# Altium integrated library pdmlse_pcb.IntLib: 82 symbols (part 2 of 2)
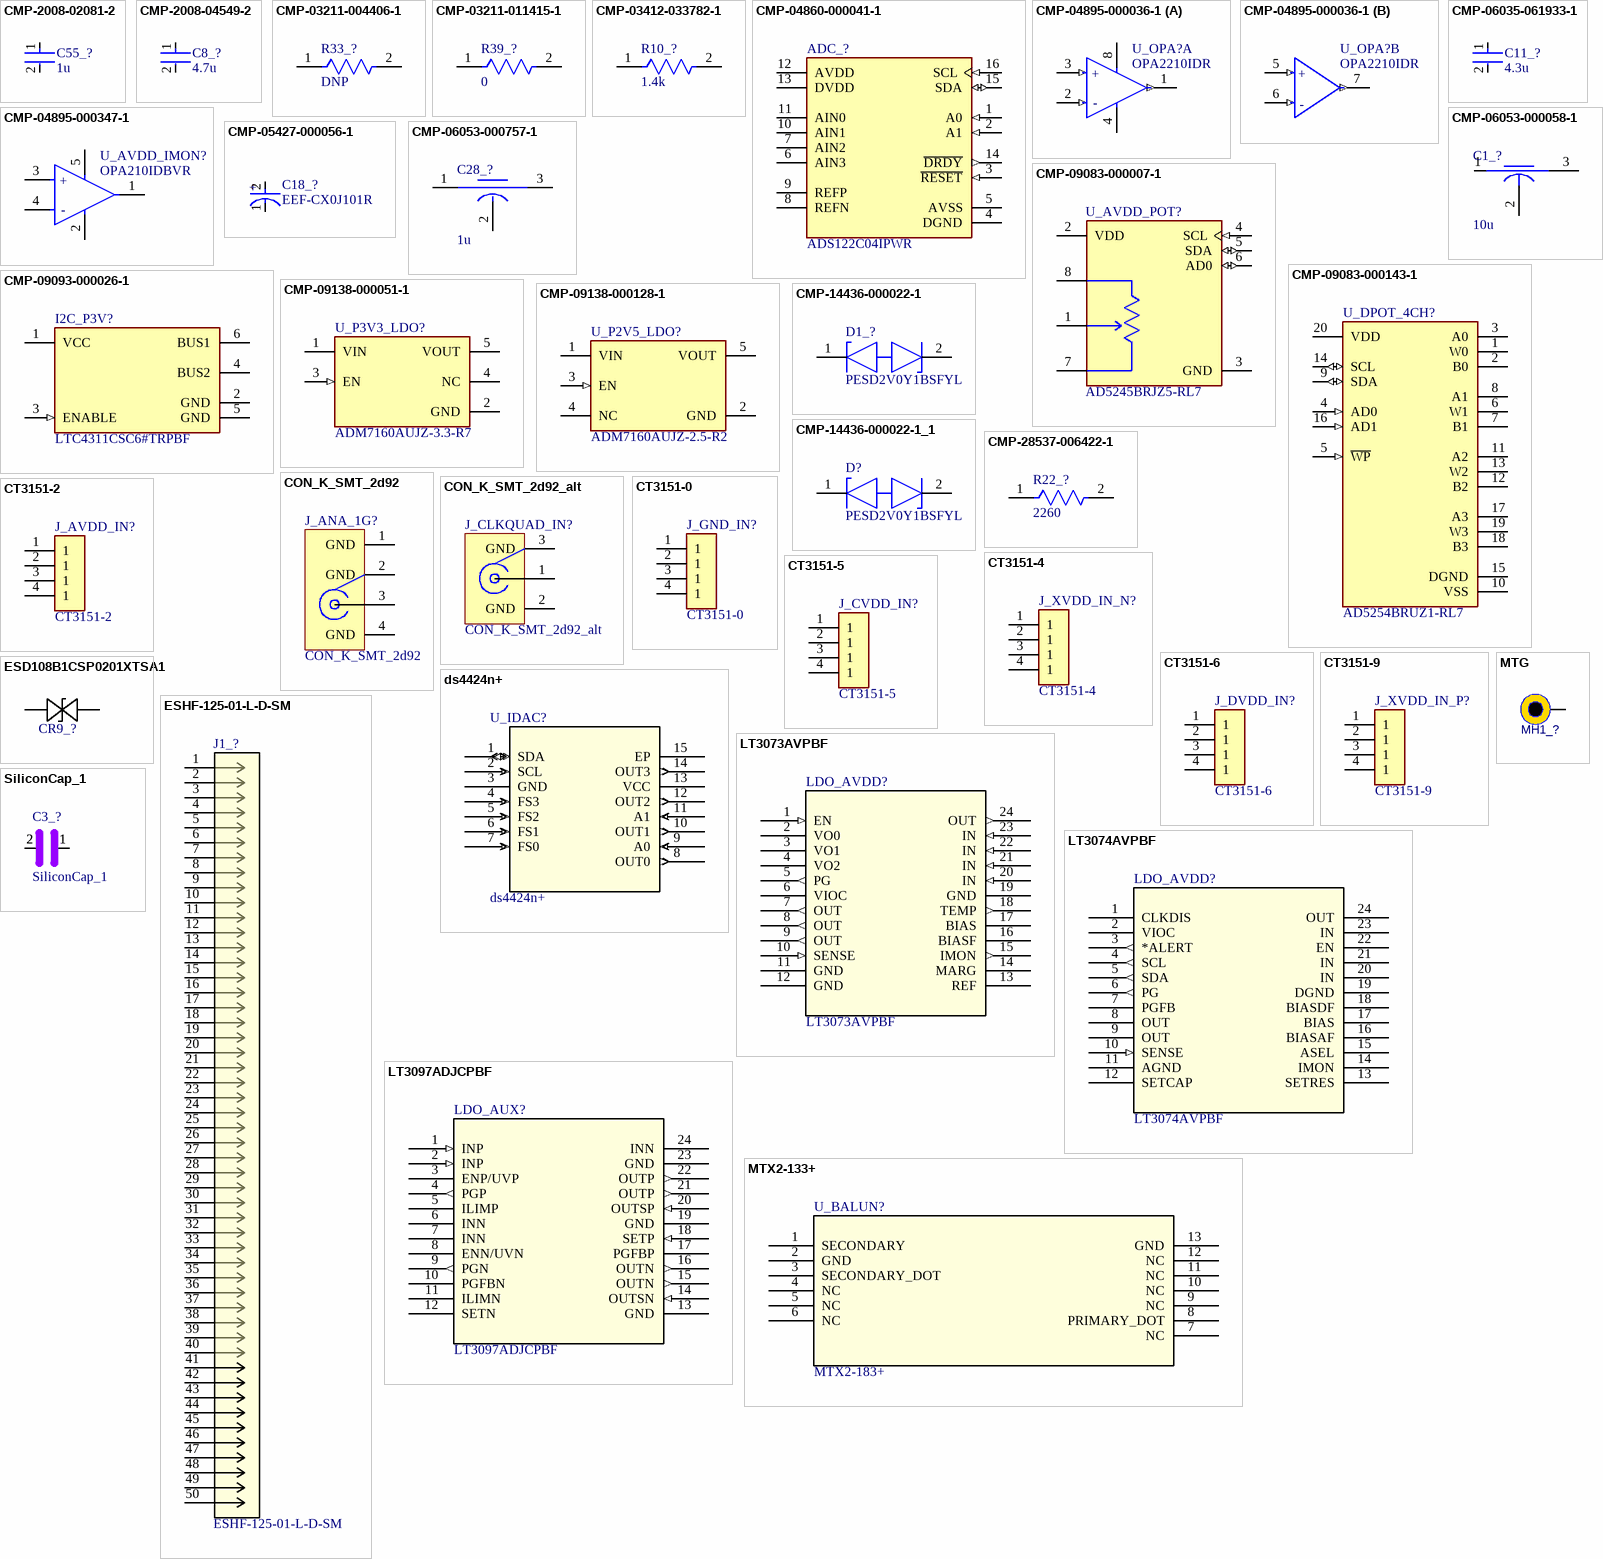
[diagram p7: symbols CMP-2008-02081-2 to SiliconCap_1]

## CT3151-5
designator J_CVDD_IN?
Banana Jack Connector Standard Banana Solder Green; MF: Cal Test; MP: CT3151-2; SnapEDA_Link: https://www.snapeda.com/parts/CT3151-2/Cal+Test+Electronics/view-part/?ref=snap; Package: None; Value: *; Check_prices: https://www.snapeda.com/parts/CT3151-2/Cal+Test+Electronics/view-part/?ref=eda; Supplier 1: Digikey; Supplier Part Number 1: BKCT3151-5-ND; ClassName: InputPowerComponent
footprint CALTEST_CT3151-2
pins: 1, 2 1, 3 1, 4 1

## CT3151-6
designator J_DVDD_IN?
Banana Jack Connector Standard Banana Solder Green; MF: Cal Test; MP: CT3151-2; SnapEDA_Link: https://www.snapeda.com/parts/CT3151-2/Cal+Test+Electronics/view-part/?ref=snap; Package: None; Value: *; Check_prices: https://www.snapeda.com/parts/CT3151-2/Cal+Test+Electronics/view-part/?ref=eda; Supplier 1: Digikey; Supplier Part Number 1: BKCT3151-6-ND; ClassName: InputPowerComponent
footprint CALTEST_CT3151-2
pins: 1, 2 1, 3 1, 4 1

## CT3151-9
designator J_XVDD_IN_P?
Banana Jack Connector Standard Banana Solder White; MF: Cal Test; MP: CT3151-2; SnapEDA_Link: https://www.snapeda.com/parts/CT3151-2/Cal+Test+Electronics/view-part/?ref=snap; Package: None; Value: *; Check_prices: https://www.snapeda.com/parts/CT3151-2/Cal+Test+Electronics/view-part/?ref=eda; Supplier 1: Digikey; Supplier Part Number 1: BKCT3151-9-ND; ClassName: InputPowerComponent
footprint CALTEST_CT3151-2
pins: 1, 2 1, 3 1, 4 1

## ds4424n+
designator U_IDAC?
No Description Available; Mfr_Name: Analog Devices Inc; RefDes: RefDes; Type: Type; Supplier 1: Mouser; Supplier Part Number 1: 700-DS4424N
footprint 21-0137_T1433+2_MXM
pins: 1 SDA (io), 2 SCL (in), 3 GND (power), 4 FS3 (in), 5 FS2 (in), 6 FS1 (in), 7 FS0 (in), 8 OUT0 (out), 9 A0 (in), 10 OUT1 (out), 11 A1 (in), 12 OUT2 (out), 13 VCC (power), 14 OUT3 (out), 15 EP

## ESD108B1CSP0201XTSA1
designator CR9_?, comment CSPSBULC1V5AE  (value not drawn)
No Description Available; Mfr_Name: Infineon
footprint WLL-2-1_INF
pins: 1, 2

## ESHF-125-01-L-D-SM
designator J1_?
No Description Available; Mfr_Name: Samtec Inc; Type: Headers, Male Pins; RefDes: RefDes; Supplier 1: Digikey; Supplier Part Number 1: SAM15560-ND; ClassName: InputPowerComponent
footprint CONN_ESHF-125-01-x-D-SM_SAI
pins: 1, 2, 3, 4, 5, 6, 7, 8, 9, 10, 11, 12, 13, 14, 15, 16, 17, 18, 19, 20, 21, 22, 23, 24, 25, 26, 27, 28, 29, 30, 31, 32, 33, 34, 35, 36, 37, 38, 39, 40, 41, 42, 43, 44, 45, 46, 47, 48, 49, 50

## LT3073AVPBF
designator LDO_AVDD?
No Description Available; Mfr_Name: Analog Devices Inc; Type: Power Management; RefDes: RefDes; Supplier 1: Arrow Electronics; Supplier Part Number 1: LT3073AV#PBF
footprint 05-08-7054_ADI
pins: 1 EN (in), 2 VO0 (hiz), 3 VO1 (hiz), 4 VO2 (hiz), 5 PG (out), 6 VIOC (power), 7 OUT (out), 8 OUT (out), 9 OUT (out), 10 SENSE (in), 11 GND (power), 12 GND (power), 13 REF, 14 MARG, 15 IMON (out), 16 BIASF (power), 17 BIAS (power), 18 TEMP (out), 19 GND (power), 20 IN (in), 21 IN (in), 22 IN (in), 23 IN (in), 24 OUT (out)

## LT3074AVPBF
designator LDO_AVDD?
No Description Available; Mfr_Name: Analog Devices Inc; RefDes: RefDes; Type: Type; Supplier 1: Mouser; Supplier Part Number 1: 584-LT3074AV#PBF
footprint LGA_CC-22-4_ADI
pins: 1 CLKDIS, 2 VIOC, 3 *ALERT (out), 4 SCL (out), 5 SDA (out), 6 PG (out), 7 PGFB, 8 OUT (power), 9 OUT (power), 10 SENSE (in), 11 AGND (power), 12 SETCAP, 13 SETRES, 14 IMON (power), 15 ASEL, 16 BIASAF, 17 BIAS (power), 18 BIASDF, 19 DGND (power), 20 IN (power), 21 IN (power), 22 EN, 23 IN (power), 24 OUT (power)

## LT3097ADJCPBF
designator LDO_AUX?
No Description Available; Mfr_Name: Analog Devices Inc; Type: Power Management; RefDes: RefDes; Supplier 1: Mouser; Supplier Part Number 1: 584-LT3097ADJC#PBF
footprint 05-08-7071_ADI
pins: 1 INP (in), 2 INP (in), 3 ENP/UVP, 4 PGP (out), 5 ILIMP, 6 INN (power), 7 INN (power), 8 ENN/UVN, 9 PGN (out), 10 PGFBN, 11 ILIMN, 12 SETN, 13 GND (power), 14 OUTSN (in), 15 OUTN (out), 16 OUTN (out), 17 PGFBP, 18 SETP (in), 19 GND (power), 20 OUTSP (in), 21 OUTP (out), 22 OUTP (out), 23 GND (power), 24 INN (power)

## MTG
designator MH1_?  (value not drawn)
Mounting hole
footprint MTG-2.7/5.0-PTH (Mounting hole, 2.7mm ID, 5.0mm OD, plated)
footprint MTG-3.0/5.0-PTH (Mounting hole, 3.0mm ID, 5.0mm OD, plated)
footprint MTG-5.0/10.0-PTH (Mounting hole, 6.0mm ID, 11.0mm OD, plated)
footprint MTG-2.5/5.0-PTH (Mounting hole, 2.5mm ID, 5.0mm OD, plated)
footprint MTG-3.2/6.5-PTH (Mounting hole, 3.2mm ID, 6.5mm OD, plated)
pins: 1

## MTX2-133+
designator U_BALUN?, comment MTX2-183+
Mfr_Name: Mini Circuits; RefDes: RefDes; Type: Type; Supplier 1: Mouser; Supplier Part Number 1: 139-MTX2-183+
footprint DG3006_MNC
pins: 1 SECONDARY, 2 GND (power), 3 SECONDARY_DOT, 4 NC, 5 NC, 6 NC, 7 NC, 8 PRIMARY_DOT, 9 NC, 10 NC, 11 NC, 12 NC, 13 GND (power)

## SiliconCap_1
designator C3_?
939114492510-T3S from Murata; Supplier 1: Digikey; Supplier Part Number 1: 490-939114492510-T3SCT-ND
footprint 0201-NOSILK
pins: 1, 1, 2, 2

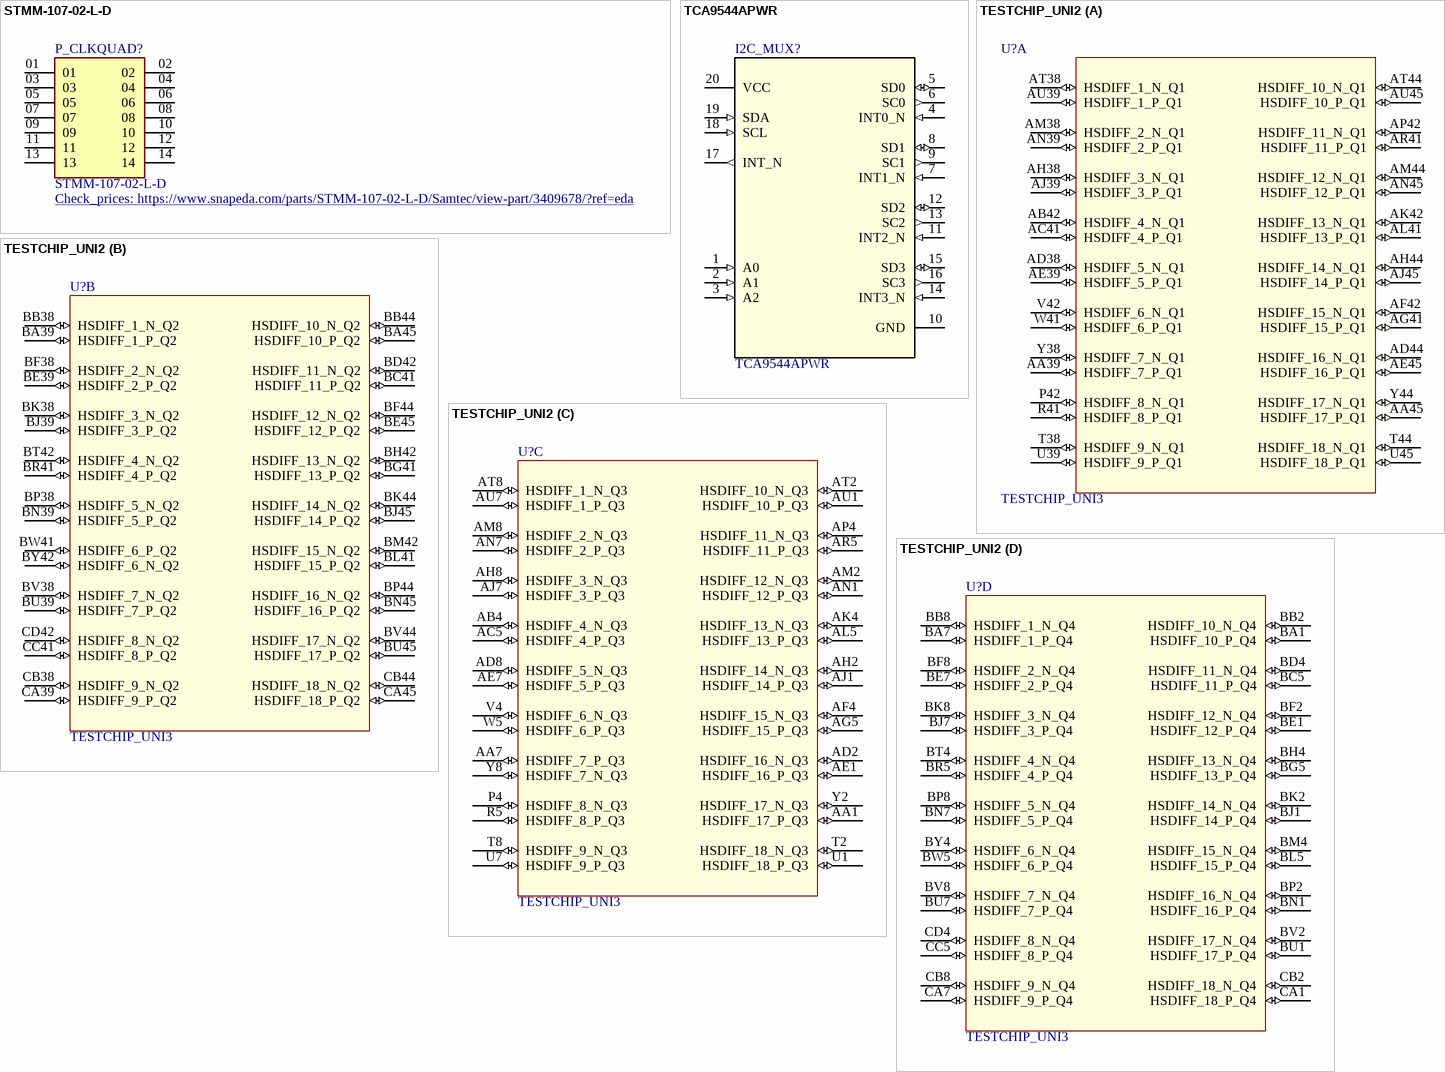
[diagram p2: symbols STMM-107-02-L-D to TESTCHIP_UNI2]

## STMM-107-02-L-D
designator P_CLKQUAD?
Connector Header Surface Mount 14 position 0.079 (2.00mm); MF: Samtec; MP: STMM-107-02-L-D; SnapEDA_Link: https://www.snapeda.com/parts/STMM-107-02-L-D/Samtec/view-part/3409678/?ref=snap; Package: None; Value: *; Digi-Key_Part_Number: STMM-107-02-L-D-SM-TR-ND; Supplier 1: Mouser; Supplier Part Number 1: 200-STMM10702LD; Check_prices: https://www.snapeda.com/parts/STMM-107-02-L-D/Samtec/view-part/3409678/?ref=eda
footprint SAMTEC_STMM-107-02-L-D
pins: 01, 02, 03, 04, 05, 06, 07, 08, 09, 10, 11, 12, 13, 14

## TCA9544APWR
designator I2C_MUX?
No Description Available; Mfr_Name: Texas Instruments; CompType: IC; TYPE: TYPE; RefDes: RefDes; SymbolVerison: 2015-05-04; PartNumber: TCA9544APWR; PackageReference: PW0020A; MountType: SMT; RoHS: Y; Manufacturer: Texas Instruments
footprint PW0020A_L
pins: 1 A0 (in), 2 A1 (in), 3 A2 (in), 4 INT0_N (in), 5 SD0 (io), 6 SC0 (out), 7 INT1_N (in), 8 SD1 (io), 9 SC1 (out), 10 GND (power), 11 INT2_N (in), 12 SD2 (io), 13 SC2 (out), 14 INT3_N (in), 15 SD3 (io), 16 SC3 (out), 17 INT_N (out), 18 SCL (in), 19 SDA (in), 20 VCC (power)

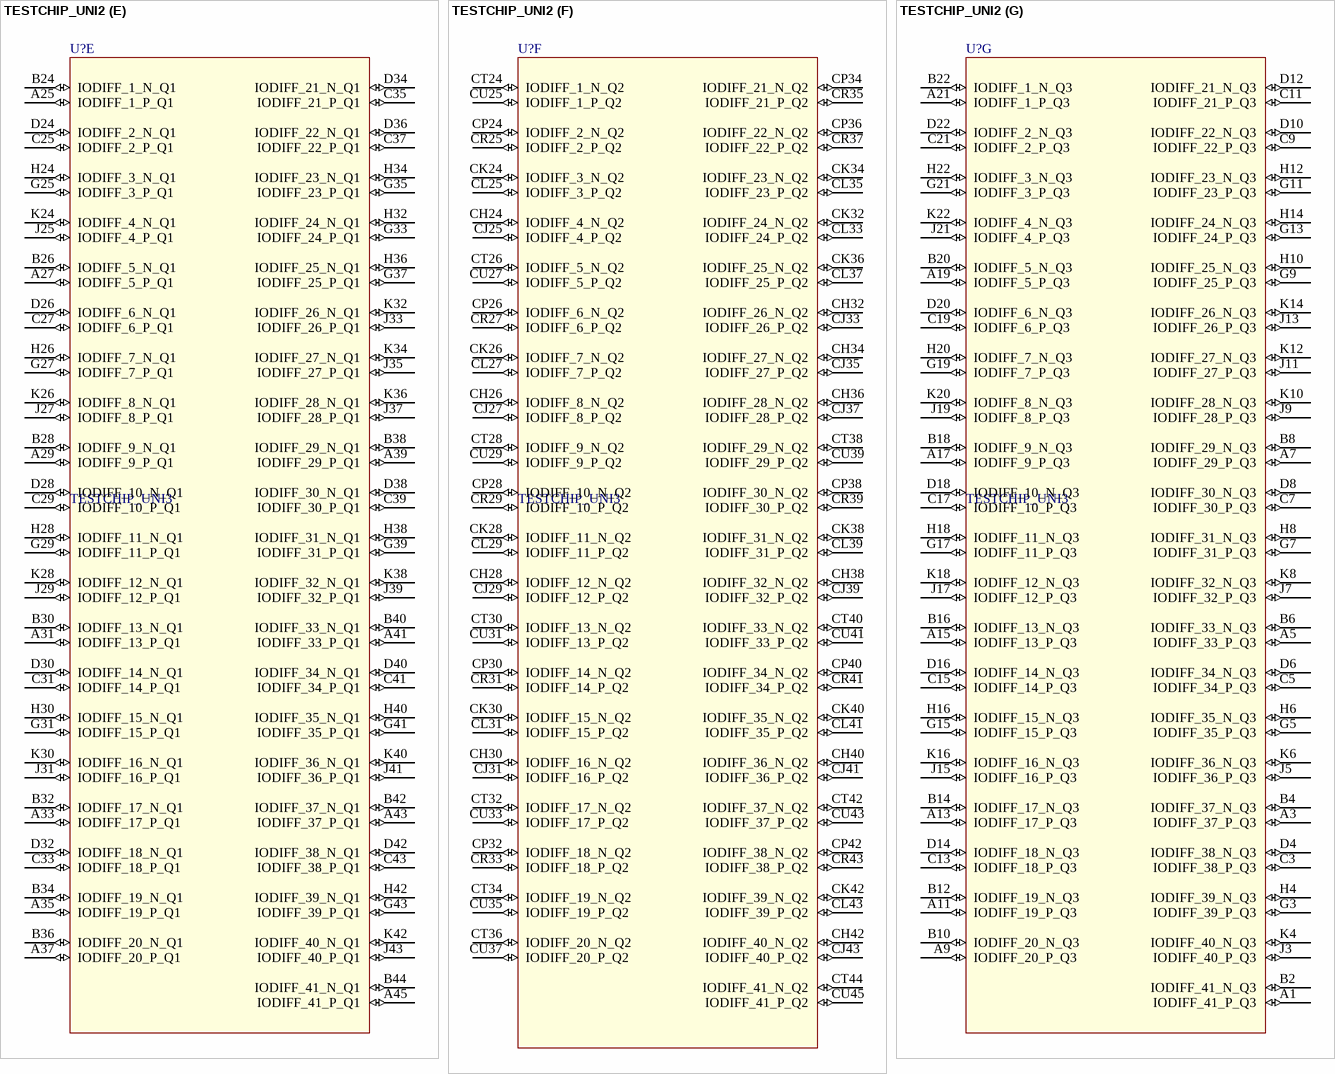
[diagram p3: symbol TESTCHIP_UNI2]

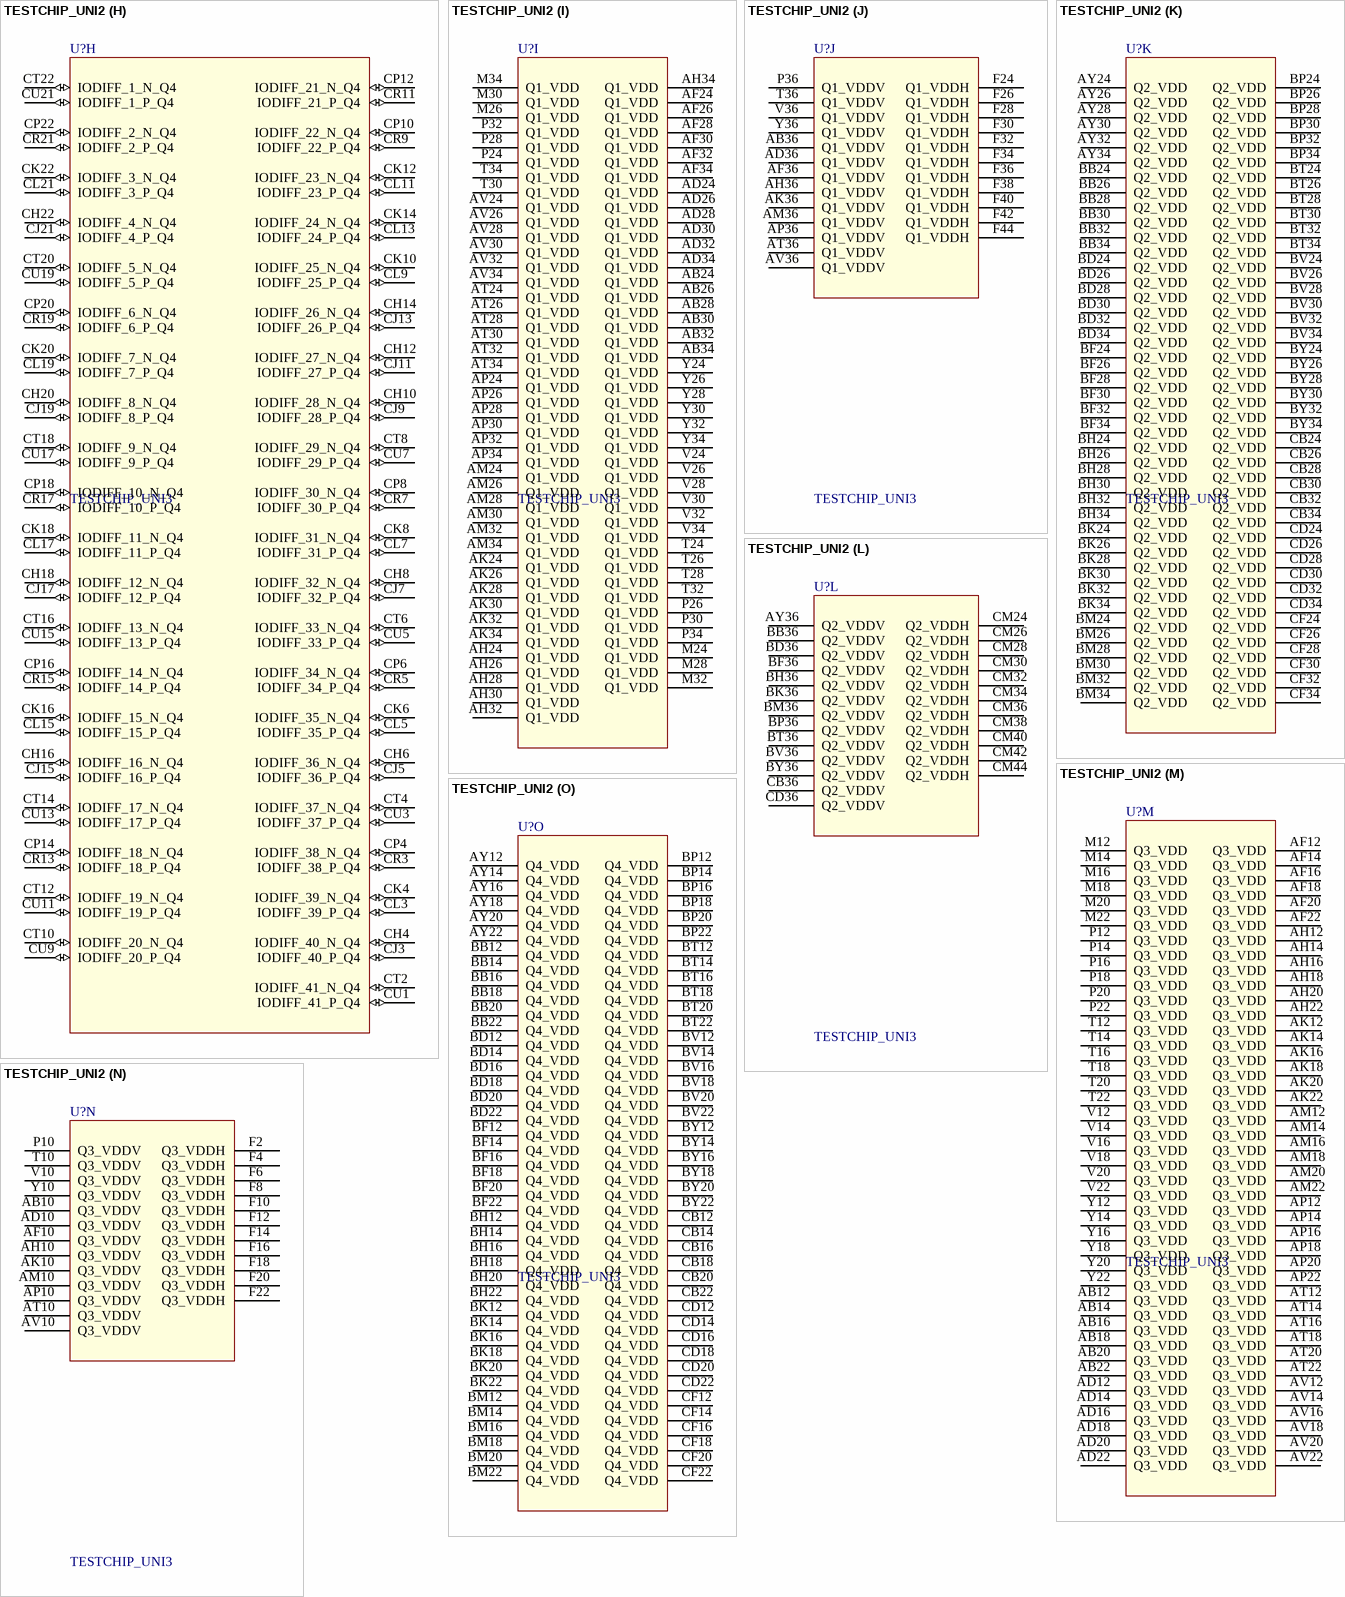
[diagram p4: symbol TESTCHIP_UNI2]

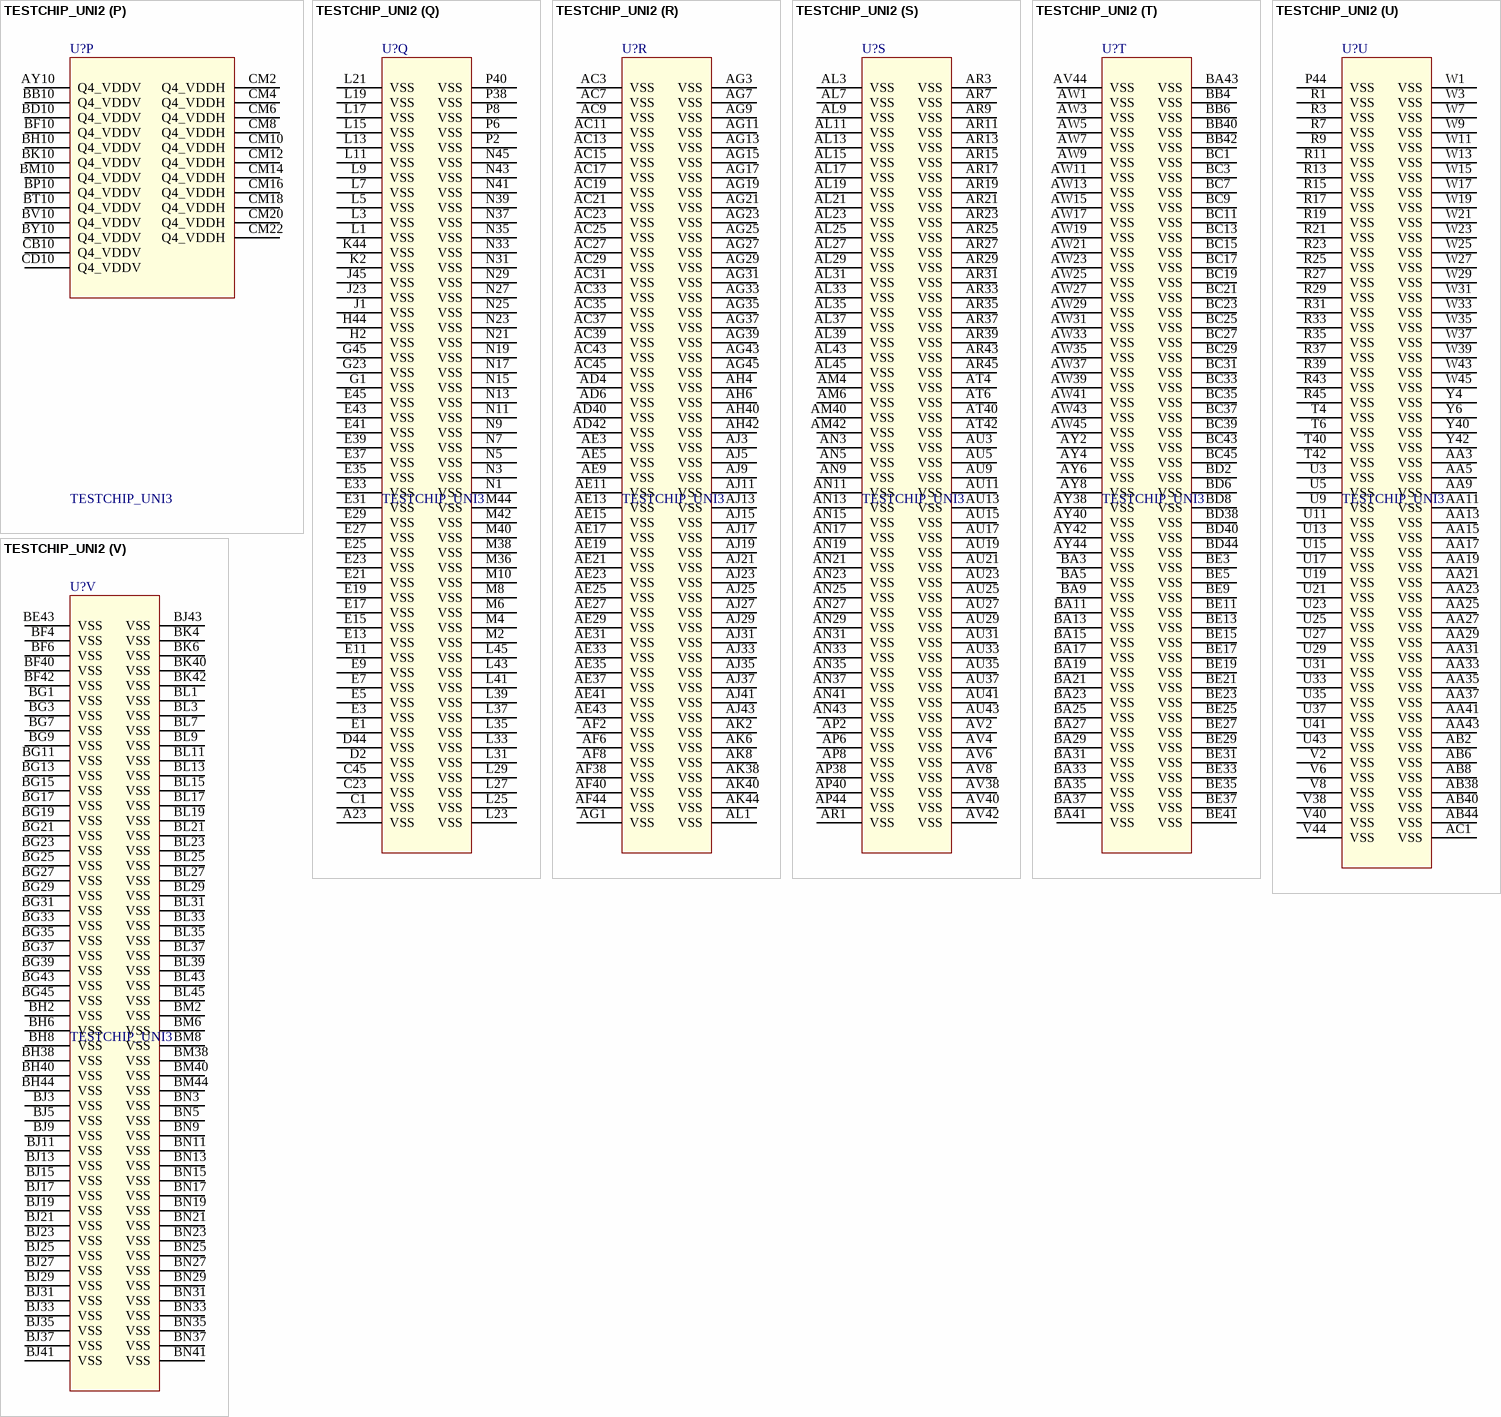
[diagram p5: symbol TESTCHIP_UNI2]

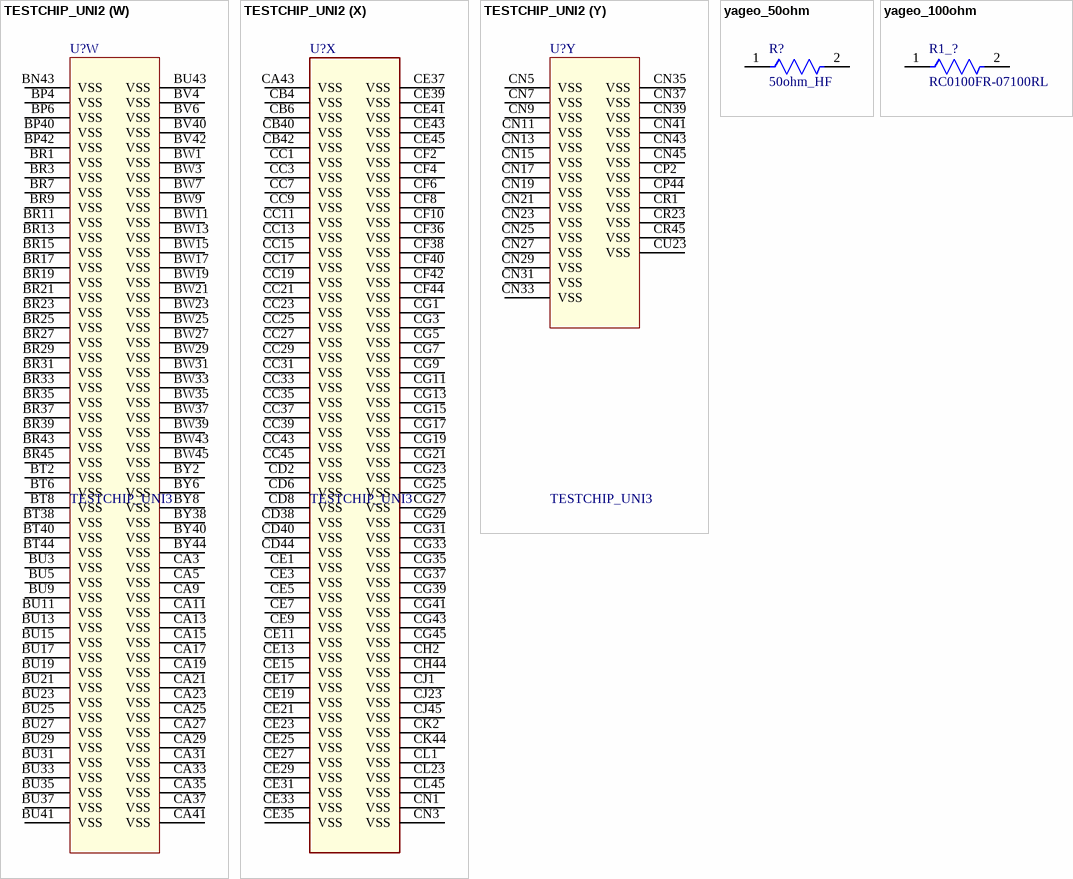
[diagram p6: symbols TESTCHIP_UNI2 to yageo_100ohm]

## TESTCHIP_UNI2
designator U?, comment TESTCHIP_UNI3
UNI2 interposer
footprint BGA-1733-.92-37.5X37.5
part A pins: AA39 HSDIFF_7_P_Q1 (io), AA45 HSDIFF_17_P_Q1 (io), AB42 HSDIFF_4_N_Q1 (io), AC41 HSDIFF_4_P_Q1 (io), AD38 HSDIFF_5_N_Q1 (io), AD44 HSDIFF_16_N_Q1 (io), AE39 HSDIFF_5_P_Q1 (io), AE45 HSDIFF_16_P_Q1 (io), AF42 HSDIFF_15_N_Q1 (io), AG41 HSDIFF_15_P_Q1 (io), AH38 HSDIFF_3_N_Q1 (io), AH44 HSDIFF_14_N_Q1 (io), AJ39 HSDIFF_3_P_Q1 (io), AJ45 HSDIFF_14_P_Q1 (io), AK42 HSDIFF_13_N_Q1 (io), AL41 HSDIFF_13_P_Q1 (io), AM38 HSDIFF_2_N_Q1 (io), AM44 HSDIFF_12_N_Q1 (io), AN39 HSDIFF_2_P_Q1 (io), AN45 HSDIFF_12_P_Q1 (io), AP42 HSDIFF_11_N_Q1 (io), AR41 HSDIFF_11_P_Q1 (io), AT38 HSDIFF_1_N_Q1 (io), AT44 HSDIFF_10_N_Q1 (io), AU39 HSDIFF_1_P_Q1 (io), AU45 HSDIFF_10_P_Q1 (io), P42 HSDIFF_8_N_Q1 (io), R41 HSDIFF_8_P_Q1 (io), T38 HSDIFF_9_N_Q1 (io), T44 HSDIFF_18_N_Q1 (io), U39 HSDIFF_9_P_Q1 (io), U45 HSDIFF_18_P_Q1 (io), V42 HSDIFF_6_N_Q1 (io), W41 HSDIFF_6_P_Q1 (io), Y38 HSDIFF_7_N_Q1 (io), Y44 HSDIFF_17_N_Q1 (io)
part B pins: BA39 HSDIFF_1_P_Q2 (io), BA45 HSDIFF_10_P_Q2 (io), BB38 HSDIFF_1_N_Q2 (io), BB44 HSDIFF_10_N_Q2 (io), BC41 HSDIFF_11_P_Q2 (io), BD42 HSDIFF_11_N_Q2 (io), BE39 HSDIFF_2_P_Q2 (io), BE45 HSDIFF_12_P_Q2 (io), BF38 HSDIFF_2_N_Q2 (io), BF44 HSDIFF_12_N_Q2 (io), BG41 HSDIFF_13_P_Q2 (io), BH42 HSDIFF_13_N_Q2 (io), BJ39 HSDIFF_3_P_Q2 (io), BJ45 HSDIFF_14_P_Q2 (io), BK38 HSDIFF_3_N_Q2 (io), BK44 HSDIFF_14_N_Q2 (io), BL41 HSDIFF_15_P_Q2 (io), BM42 HSDIFF_15_N_Q2 (io), BN39 HSDIFF_5_P_Q2 (io), BN45 HSDIFF_16_P_Q2 (io), BP38 HSDIFF_5_N_Q2 (io), BP44 HSDIFF_16_N_Q2 (io), BR41 HSDIFF_4_P_Q2 (io), BT42 HSDIFF_4_N_Q2 (io), BU39 HSDIFF_7_P_Q2 (io), BU45 HSDIFF_17_P_Q2 (io), BV38 HSDIFF_7_N_Q2 (io), BV44 HSDIFF_17_N_Q2 (io), BW41 HSDIFF_6_P_Q2 (io), BY42 HSDIFF_6_N_Q2 (io), CA39 HSDIFF_9_P_Q2 (io), CA45 HSDIFF_18_P_Q2 (io), CB38 HSDIFF_9_N_Q2 (io), CB44 HSDIFF_18_N_Q2 (io), CC41 HSDIFF_8_P_Q2 (io), CD42 HSDIFF_8_N_Q2 (io)
part C pins: AA1 HSDIFF_17_P_Q3 (io), AA7 HSDIFF_7_P_Q3 (io), AB4 HSDIFF_4_N_Q3 (io), AC5 HSDIFF_4_P_Q3 (io), AD2 HSDIFF_16_N_Q3 (io), AD8 HSDIFF_5_N_Q3 (io), AE1 HSDIFF_16_P_Q3 (io), AE7 HSDIFF_5_P_Q3 (io), AF4 HSDIFF_15_N_Q3 (io), AG5 HSDIFF_15_P_Q3 (io), AH2 HSDIFF_14_N_Q3 (io), AH8 HSDIFF_3_N_Q3 (io), AJ1 HSDIFF_14_P_Q3 (io), AJ7 HSDIFF_3_P_Q3 (io), AK4 HSDIFF_13_N_Q3 (io), AL5 HSDIFF_13_P_Q3 (io), AM2 HSDIFF_12_N_Q3 (io), AM8 HSDIFF_2_N_Q3 (io), AN1 HSDIFF_12_P_Q3 (io), AN7 HSDIFF_2_P_Q3 (io), AP4 HSDIFF_11_N_Q3 (io), AR5 HSDIFF_11_P_Q3 (io), AT2 HSDIFF_10_N_Q3 (io), AT8 HSDIFF_1_N_Q3 (io), AU1 HSDIFF_10_P_Q3 (io), AU7 HSDIFF_1_P_Q3 (io), P4 HSDIFF_8_N_Q3 (io), R5 HSDIFF_8_P_Q3 (io), T2 HSDIFF_18_N_Q3 (io), T8 HSDIFF_9_N_Q3 (io), U1 HSDIFF_18_P_Q3 (io), U7 HSDIFF_9_P_Q3 (io), V4 HSDIFF_6_N_Q3 (io), W5 HSDIFF_6_P_Q3 (io), Y2 HSDIFF_17_N_Q3 (io), Y8 HSDIFF_7_N_Q3 (io)
part D pins: BA1 HSDIFF_10_P_Q4 (io), BA7 HSDIFF_1_P_Q4 (io), BB2 HSDIFF_10_N_Q4 (io), BB8 HSDIFF_1_N_Q4 (io), BC5 HSDIFF_11_P_Q4 (io), BD4 HSDIFF_11_N_Q4 (io), BE1 HSDIFF_12_P_Q4 (io), BE7 HSDIFF_2_P_Q4 (io), BF2 HSDIFF_12_N_Q4 (io), BF8 HSDIFF_2_N_Q4 (io), BG5 HSDIFF_13_P_Q4 (io), BH4 HSDIFF_13_N_Q4 (io), BJ1 HSDIFF_14_P_Q4 (io), BJ7 HSDIFF_3_P_Q4 (io), BK2 HSDIFF_14_N_Q4 (io), BK8 HSDIFF_3_N_Q4 (io), BL5 HSDIFF_15_P_Q4 (io), BM4 HSDIFF_15_N_Q4 (io), BN1 HSDIFF_16_P_Q4 (io), BN7 HSDIFF_5_P_Q4 (io), BP2 HSDIFF_16_N_Q4 (io), BP8 HSDIFF_5_N_Q4 (io), BR5 HSDIFF_4_P_Q4 (io), BT4 HSDIFF_4_N_Q4 (io), BU1 HSDIFF_17_P_Q4 (io), BU7 HSDIFF_7_P_Q4 (io), BV2 HSDIFF_17_N_Q4 (io), BV8 HSDIFF_7_N_Q4 (io), BW5 HSDIFF_6_P_Q4 (io), BY4 HSDIFF_6_N_Q4 (io), CA1 HSDIFF_18_P_Q4 (io), CA7 HSDIFF_9_P_Q4 (io), CB2 HSDIFF_18_N_Q4 (io), CB8 HSDIFF_9_N_Q4 (io), CC5 HSDIFF_8_P_Q4 (io), CD4 HSDIFF_8_N_Q4 (io)
part E pins: A25 IODIFF_1_P_Q1 (io), A27 IODIFF_5_P_Q1 (io), A29 IODIFF_9_P_Q1 (io), A31 IODIFF_13_P_Q1 (io), A33 IODIFF_17_P_Q1 (io), A35 IODIFF_19_P_Q1 (io), A37 IODIFF_20_P_Q1 (io), A39 IODIFF_29_P_Q1 (io), A41 IODIFF_33_P_Q1 (io), A43 IODIFF_37_P_Q1 (io), A45 IODIFF_41_P_Q1 (io), B24 IODIFF_1_N_Q1 (io), B26 IODIFF_5_N_Q1 (io), B28 IODIFF_9_N_Q1 (io), B30 IODIFF_13_N_Q1 (io), B32 IODIFF_17_N_Q1 (io), B34 IODIFF_19_N_Q1 (io), B36 IODIFF_20_N_Q1 (io), B38 IODIFF_29_N_Q1 (io), B40 IODIFF_33_N_Q1 (io), B42 IODIFF_37_N_Q1 (io), B44 IODIFF_41_N_Q1 (io), C25 IODIFF_2_P_Q1 (io), C27 IODIFF_6_P_Q1 (io), C29 IODIFF_10_P_Q1 (io), C31 IODIFF_14_P_Q1 (io), C33 IODIFF_18_P_Q1 (io), C35 IODIFF_21_P_Q1 (io), C37 IODIFF_22_P_Q1 (io), C39 IODIFF_30_P_Q1 (io), C41 IODIFF_34_P_Q1 (io), C43 IODIFF_38_P_Q1 (io), D24 IODIFF_2_N_Q1 (io), D26 IODIFF_6_N_Q1 (io), D28 IODIFF_10_N_Q1 (io), D30 IODIFF_14_N_Q1 (io), D32 IODIFF_18_N_Q1 (io), D34 IODIFF_21_N_Q1 (io), D36 IODIFF_22_N_Q1 (io), D38 IODIFF_30_N_Q1 (io), D40 IODIFF_34_N_Q1 (io), D42 IODIFF_38_N_Q1 (io), G25 IODIFF_3_P_Q1 (io), G27 IODIFF_7_P_Q1 (io), G29 IODIFF_11_P_Q1 (io), G31 IODIFF_15_P_Q1 (io), G33 IODIFF_24_P_Q1 (io), G35 IODIFF_23_P_Q1 (io), G37 IODIFF_25_P_Q1 (io), G39 IODIFF_31_P_Q1 (io), G41 IODIFF_35_P_Q1 (io), G43 IODIFF_39_P_Q1 (io), H24 IODIFF_3_N_Q1 (io), H26 IODIFF_7_N_Q1 (io), H28 IODIFF_11_N_Q1 (io), H30 IODIFF_15_N_Q1 (io), H32 IODIFF_24_N_Q1 (io), H34 IODIFF_23_N_Q1 (io), H36 IODIFF_25_N_Q1 (io), H38 IODIFF_31_N_Q1 (io), H40 IODIFF_35_N_Q1 (io), H42 IODIFF_39_N_Q1 (io), J25 IODIFF_4_P_Q1 (io), J27 IODIFF_8_P_Q1 (io), J29 IODIFF_12_P_Q1 (io), J31 IODIFF_16_P_Q1 (io), J33 IODIFF_26_P_Q1 (io), J35 IODIFF_27_P_Q1 (io), J37 IODIFF_28_P_Q1 (io), J39 IODIFF_32_P_Q1 (io), J41 IODIFF_36_P_Q1 (io), J43 IODIFF_40_P_Q1 (io), K24 IODIFF_4_N_Q1 (io), K26 IODIFF_8_N_Q1 (io), K28 IODIFF_12_N_Q1 (io), K30 IODIFF_16_N_Q1 (io), K32 IODIFF_26_N_Q1 (io), K34 IODIFF_27_N_Q1 (io), K36 IODIFF_28_N_Q1 (io), K38 IODIFF_32_N_Q1 (io), K40 IODIFF_36_N_Q1 (io), K42 IODIFF_40_N_Q1 (io)
part F pins: CH24 IODIFF_4_N_Q2 (io), CH26 IODIFF_8_N_Q2 (io), CH28 IODIFF_12_N_Q2 (io), CH30 IODIFF_16_N_Q2 (io), CH32 IODIFF_26_N_Q2 (io), CH34 IODIFF_27_N_Q2 (io), CH36 IODIFF_28_N_Q2 (io), CH38 IODIFF_32_N_Q2 (io), CH40 IODIFF_36_N_Q2 (io), CH42 IODIFF_40_N_Q2 (io), CJ25 IODIFF_4_P_Q2 (io), CJ27 IODIFF_8_P_Q2 (io), CJ29 IODIFF_12_P_Q2 (io), CJ31 IODIFF_16_P_Q2 (io), CJ33 IODIFF_26_P_Q2 (io), CJ35 IODIFF_27_P_Q2 (io), CJ37 IODIFF_28_P_Q2 (io), CJ39 IODIFF_32_P_Q2 (io), CJ41 IODIFF_36_P_Q2 (io), CJ43 IODIFF_40_P_Q2 (io), CK24 IODIFF_3_N_Q2 (io), CK26 IODIFF_7_N_Q2 (io), CK28 IODIFF_11_N_Q2 (io), CK30 IODIFF_15_N_Q2 (io), CK32 IODIFF_24_N_Q2 (io), CK34 IODIFF_23_N_Q2 (io), CK36 IODIFF_25_N_Q2 (io), CK38 IODIFF_31_N_Q2 (io), CK40 IODIFF_35_N_Q2 (io), CK42 IODIFF_39_N_Q2 (io), CL25 IODIFF_3_P_Q2 (io), CL27 IODIFF_7_P_Q2 (io), CL29 IODIFF_11_P_Q2 (io), CL31 IODIFF_15_P_Q2 (io), CL33 IODIFF_24_P_Q2 (io), CL35 IODIFF_23_P_Q2 (io), CL37 IODIFF_25_P_Q2 (io), CL39 IODIFF_31_P_Q2 (io), CL41 IODIFF_35_P_Q2 (io), CL43 IODIFF_39_P_Q2 (io), CP24 IODIFF_2_N_Q2 (io), CP26 IODIFF_6_N_Q2 (io), CP28 IODIFF_10_N_Q2 (io), CP30 IODIFF_14_N_Q2 (io), CP32 IODIFF_18_N_Q2 (io), CP34 IODIFF_21_N_Q2 (io), CP36 IODIFF_22_N_Q2 (io), CP38 IODIFF_30_N_Q2 (io), CP40 IODIFF_34_N_Q2 (io), CP42 IODIFF_38_N_Q2 (io), CR25 IODIFF_2_P_Q2 (io), CR27 IODIFF_6_P_Q2 (io), CR29 IODIFF_10_P_Q2 (io), CR31 IODIFF_14_P_Q2 (io), CR33 IODIFF_18_P_Q2 (io), CR35 IODIFF_21_P_Q2 (io), CR37 IODIFF_22_P_Q2 (io), CR39 IODIFF_30_P_Q2 (io), CR41 IODIFF_34_P_Q2 (io), CR43 IODIFF_38_P_Q2 (io), CT24 IODIFF_1_N_Q2 (io), CT26 IODIFF_5_N_Q2 (io), CT28 IODIFF_9_N_Q2 (io), CT30 IODIFF_13_N_Q2 (io), CT32 IODIFF_17_N_Q2 (io), CT34 IODIFF_19_N_Q2 (io), CT36 IODIFF_20_N_Q2 (io), CT38 IODIFF_29_N_Q2 (io), CT40 IODIFF_33_N_Q2 (io), CT42 IODIFF_37_N_Q2 (io), CT44 IODIFF_41_N_Q2 (io), CU25 IODIFF_1_P_Q2 (io), CU27 IODIFF_5_P_Q2 (io), CU29 IODIFF_9_P_Q2 (io), CU31 IODIFF_13_P_Q2 (io), CU33 IODIFF_17_P_Q2 (io), CU35 IODIFF_19_P_Q2 (io), CU37 IODIFF_20_P_Q2 (io), CU39 IODIFF_29_P_Q2 (io), CU41 IODIFF_33_P_Q2 (io), CU43 IODIFF_37_P_Q2 (io), CU45 IODIFF_41_P_Q2 (io)
part G pins: A1 IODIFF_41_P_Q3 (io), A3 IODIFF_37_P_Q3 (io), A5 IODIFF_33_P_Q3 (io), A7 IODIFF_29_P_Q3 (io), A9 IODIFF_20_P_Q3 (io), A11 IODIFF_19_P_Q3 (io), A13 IODIFF_17_P_Q3 (io), A15 IODIFF_13_P_Q3 (io), A17 IODIFF_9_P_Q3 (io), A19 IODIFF_5_P_Q3 (io), A21 IODIFF_1_P_Q3 (io), B2 IODIFF_41_N_Q3 (io), B4 IODIFF_37_N_Q3 (io), B6 IODIFF_33_N_Q3 (io), B8 IODIFF_29_N_Q3 (io), B10 IODIFF_20_N_Q3 (io), B12 IODIFF_19_N_Q3 (io), B14 IODIFF_17_N_Q3 (io), B16 IODIFF_13_N_Q3 (io), B18 IODIFF_9_N_Q3 (io), B20 IODIFF_5_N_Q3 (io), B22 IODIFF_1_N_Q3 (io), C3 IODIFF_38_P_Q3 (io), C5 IODIFF_34_P_Q3 (io), C7 IODIFF_30_P_Q3 (io), C9 IODIFF_22_P_Q3 (io), C11 IODIFF_21_P_Q3 (io), C13 IODIFF_18_P_Q3 (io), C15 IODIFF_14_P_Q3 (io), C17 IODIFF_10_P_Q3 (io), C19 IODIFF_6_P_Q3 (io), C21 IODIFF_2_P_Q3 (io), D4 IODIFF_38_N_Q3 (io), D6 IODIFF_34_N_Q3 (io), D8 IODIFF_30_N_Q3 (io), D10 IODIFF_22_N_Q3 (io), D12 IODIFF_21_N_Q3 (io), D14 IODIFF_18_N_Q3 (io), D16 IODIFF_14_N_Q3 (io), D18 IODIFF_10_N_Q3 (io), D20 IODIFF_6_N_Q3 (io), D22 IODIFF_2_N_Q3 (io), G3 IODIFF_39_P_Q3 (io), G5 IODIFF_35_P_Q3 (io), G7 IODIFF_31_P_Q3 (io), G9 IODIFF_25_P_Q3 (io), G11 IODIFF_23_P_Q3 (io), G13 IODIFF_24_P_Q3 (io), G15 IODIFF_15_P_Q3 (io), G17 IODIFF_11_P_Q3 (io), G19 IODIFF_7_P_Q3 (io), G21 IODIFF_3_P_Q3 (io), H4 IODIFF_39_N_Q3 (io), H6 IODIFF_35_N_Q3 (io), H8 IODIFF_31_N_Q3 (io), H10 IODIFF_25_N_Q3 (io), H12 IODIFF_23_N_Q3 (io), H14 IODIFF_24_N_Q3 (io), H16 IODIFF_15_N_Q3 (io), H18 IODIFF_11_N_Q3 (io), H20 IODIFF_7_N_Q3 (io), H22 IODIFF_3_N_Q3 (io), J3 IODIFF_40_P_Q3 (io), J5 IODIFF_36_P_Q3 (io), J7 IODIFF_32_P_Q3 (io), J9 IODIFF_28_P_Q3 (io), J11 IODIFF_27_P_Q3 (io), J13 IODIFF_26_P_Q3 (io), J15 IODIFF_16_P_Q3 (io), J17 IODIFF_12_P_Q3 (io), J19 IODIFF_8_P_Q3 (io), J21 IODIFF_4_P_Q3 (io), K4 IODIFF_40_N_Q3 (io), K6 IODIFF_36_N_Q3 (io), K8 IODIFF_32_N_Q3 (io), K10 IODIFF_28_N_Q3 (io), K12 IODIFF_27_N_Q3 (io), K14 IODIFF_26_N_Q3 (io), K16 IODIFF_16_N_Q3 (io), K18 IODIFF_12_N_Q3 (io), K20 IODIFF_8_N_Q3 (io), K22 IODIFF_4_N_Q3 (io)
part H pins: CH4 IODIFF_40_N_Q4 (io), CH6 IODIFF_36_N_Q4 (io), CH8 IODIFF_32_N_Q4 (io), CH10 IODIFF_28_N_Q4 (io), CH12 IODIFF_27_N_Q4 (io), CH14 IODIFF_26_N_Q4 (io), CH16 IODIFF_16_N_Q4 (io), CH18 IODIFF_12_N_Q4 (io), CH20 IODIFF_8_N_Q4 (io), CH22 IODIFF_4_N_Q4 (io), CJ3 IODIFF_40_P_Q4 (io), CJ5 IODIFF_36_P_Q4 (io), CJ7 IODIFF_32_P_Q4 (io), CJ9 IODIFF_28_P_Q4 (io), CJ11 IODIFF_27_P_Q4 (io), CJ13 IODIFF_26_P_Q4 (io), CJ15 IODIFF_16_P_Q4 (io), CJ17 IODIFF_12_P_Q4 (io), CJ19 IODIFF_8_P_Q4 (io), CJ21 IODIFF_4_P_Q4 (io), CK4 IODIFF_39_N_Q4 (io), CK6 IODIFF_35_N_Q4 (io), CK8 IODIFF_31_N_Q4 (io), CK10 IODIFF_25_N_Q4 (io), CK12 IODIFF_23_N_Q4 (io), CK14 IODIFF_24_N_Q4 (io), CK16 IODIFF_15_N_Q4 (io), CK18 IODIFF_11_N_Q4 (io), CK20 IODIFF_7_N_Q4 (io), CK22 IODIFF_3_N_Q4 (io), CL3 IODIFF_39_P_Q4 (io), CL5 IODIFF_35_P_Q4 (io), CL7 IODIFF_31_P_Q4 (io), CL9 IODIFF_25_P_Q4 (io), CL11 IODIFF_23_P_Q4 (io), CL13 IODIFF_24_P_Q4 (io), CL15 IODIFF_15_P_Q4 (io), CL17 IODIFF_11_P_Q4 (io), CL19 IODIFF_7_P_Q4 (io), CL21 IODIFF_3_P_Q4 (io), CP4 IODIFF_38_N_Q4 (io), CP6 IODIFF_34_N_Q4 (io), CP8 IODIFF_30_N_Q4 (io), CP10 IODIFF_22_N_Q4 (io), CP12 IODIFF_21_N_Q4 (io), CP14 IODIFF_18_N_Q4 (io), CP16 IODIFF_14_N_Q4 (io), CP18 IODIFF_10_N_Q4 (io), CP20 IODIFF_6_N_Q4 (io), CP22 IODIFF_2_N_Q4 (io), CR3 IODIFF_38_P_Q4 (io), CR5 IODIFF_34_P_Q4 (io), CR7 IODIFF_30_P_Q4 (io), CR9 IODIFF_22_P_Q4 (io), CR11 IODIFF_21_P_Q4 (io), CR13 IODIFF_18_P_Q4 (io), CR15 IODIFF_14_P_Q4 (io), CR17 IODIFF_10_P_Q4 (io), CR19 IODIFF_6_P_Q4 (io), CR21 IODIFF_2_P_Q4 (io), CT2 IODIFF_41_N_Q4 (io), CT4 IODIFF_37_N_Q4 (io), CT6 IODIFF_33_N_Q4 (io), CT8 IODIFF_29_N_Q4 (io), CT10 IODIFF_20_N_Q4 (io), CT12 IODIFF_19_N_Q4 (io), CT14 IODIFF_17_N_Q4 (io), CT16 IODIFF_13_N_Q4 (io), CT18 IODIFF_9_N_Q4 (io), CT20 IODIFF_5_N_Q4 (io), CT22 IODIFF_1_N_Q4 (io), CU1 IODIFF_41_P_Q4 (io), CU3 IODIFF_37_P_Q4 (io), CU5 IODIFF_33_P_Q4 (io), CU7 IODIFF_29_P_Q4 (io), CU9 IODIFF_20_P_Q4 (io), CU11 IODIFF_19_P_Q4 (io), CU13 IODIFF_17_P_Q4 (io), CU15 IODIFF_13_P_Q4 (io), CU17 IODIFF_9_P_Q4 (io), CU19 IODIFF_5_P_Q4 (io), CU21 IODIFF_1_P_Q4 (io)
part I pins: AB24 Q1_VDD (power), AB26 Q1_VDD (power), AB28 Q1_VDD (power), AB30 Q1_VDD (power), AB32 Q1_VDD (power), AB34 Q1_VDD (power), AD24 Q1_VDD (power), AD26 Q1_VDD (power), AD28 Q1_VDD (power), AD30 Q1_VDD (power), AD32 Q1_VDD (power), AD34 Q1_VDD (power), AF24 Q1_VDD (power), AF26 Q1_VDD (power), AF28 Q1_VDD (power), AF30 Q1_VDD (power), AF32 Q1_VDD (power), AF34 Q1_VDD (power), AH24 Q1_VDD (power), AH26 Q1_VDD (power), AH28 Q1_VDD (power), AH30 Q1_VDD (power), AH32 Q1_VDD (power), AH34 Q1_VDD (power), AK24 Q1_VDD (power), AK26 Q1_VDD (power), AK28 Q1_VDD (power), AK30 Q1_VDD (power), AK32 Q1_VDD (power), AK34 Q1_VDD (power), AM24 Q1_VDD (power), AM26 Q1_VDD (power), AM28 Q1_VDD (power), AM30 Q1_VDD (power), AM32 Q1_VDD (power), AM34 Q1_VDD (power), AP24 Q1_VDD (power), AP26 Q1_VDD (power), AP28 Q1_VDD (power), AP30 Q1_VDD (power), AP32 Q1_VDD (power), AP34 Q1_VDD (power), AT24 Q1_VDD (power), AT26 Q1_VDD (power), AT28 Q1_VDD (power), AT30 Q1_VDD (power), AT32 Q1_VDD (power), AT34 Q1_VDD (power), AV24 Q1_VDD (power), AV26 Q1_VDD (power), AV28 Q1_VDD (power), AV30 Q1_VDD (power), AV32 Q1_VDD (power), AV34 Q1_VDD (power), M24 Q1_VDD (power), M26 Q1_VDD (power), M28 Q1_VDD (power), M30 Q1_VDD (power), M32 Q1_VDD (power), M34 Q1_VDD (power), P24 Q1_VDD (power), P26 Q1_VDD (power), P28 Q1_VDD (power), P30 Q1_VDD (power), P32 Q1_VDD (power), P34 Q1_VDD (power), T24 Q1_VDD (power), T26 Q1_VDD (power), T28 Q1_VDD (power), T30 Q1_VDD (power), T32 Q1_VDD (power), T34 Q1_VDD (power), V24 Q1_VDD (power), V26 Q1_VDD (power), V28 Q1_VDD (power), V30 Q1_VDD (power), V32 Q1_VDD (power), V34 Q1_VDD (power), Y24 Q1_VDD (power), Y26 Q1_VDD (power), Y28 Q1_VDD (power), Y30 Q1_VDD (power), Y32 Q1_VDD (power), Y34 Q1_VDD (power)
part J pins: AB36 Q1_VDDV (power), AD36 Q1_VDDV (power), AF36 Q1_VDDV (power), AH36 Q1_VDDV (power), AK36 Q1_VDDV (power), AM36 Q1_VDDV (power), AP36 Q1_VDDV (power), AT36 Q1_VDDV (power), AV36 Q1_VDDV (power), F24 Q1_VDDH (power), F26 Q1_VDDH (power), F28 Q1_VDDH (power), F30 Q1_VDDH (power), F32 Q1_VDDH (power), F34 Q1_VDDH (power), F36 Q1_VDDH (power), F38 Q1_VDDH (power), F40 Q1_VDDH (power), F42 Q1_VDDH (power), F44 Q1_VDDH (power), P36 Q1_VDDV (power), T36 Q1_VDDV (power), V36 Q1_VDDV (power), Y36 Q1_VDDV (power)
part K pins: AY24 Q2_VDD (power), AY26 Q2_VDD (power), AY28 Q2_VDD (power), AY30 Q2_VDD (power), AY32 Q2_VDD (power), AY34 Q2_VDD (power), BB24 Q2_VDD (power), BB26 Q2_VDD (power), BB28 Q2_VDD (power), BB30 Q2_VDD (power), BB32 Q2_VDD (power), BB34 Q2_VDD (power), BD24 Q2_VDD (power), BD26 Q2_VDD (power), BD28 Q2_VDD (power), BD30 Q2_VDD (power), BD32 Q2_VDD (power), BD34 Q2_VDD (power), BF24 Q2_VDD (power), BF26 Q2_VDD (power), BF28 Q2_VDD (power), BF30 Q2_VDD (power), BF32 Q2_VDD (power), BF34 Q2_VDD (power), BH24 Q2_VDD (power), BH26 Q2_VDD (power), BH28 Q2_VDD (power), BH30 Q2_VDD (power), BH32 Q2_VDD (power), BH34 Q2_VDD (power), BK24 Q2_VDD (power), BK26 Q2_VDD (power), BK28 Q2_VDD (power), BK30 Q2_VDD (power), BK32 Q2_VDD (power), BK34 Q2_VDD (power), BM24 Q2_VDD (power), BM26 Q2_VDD (power), BM28 Q2_VDD (power), BM30 Q2_VDD (power), BM32 Q2_VDD (power), BM34 Q2_VDD (power), BP24 Q2_VDD (power), BP26 Q2_VDD (power), BP28 Q2_VDD (power), BP30 Q2_VDD (power), BP32 Q2_VDD (power), BP34 Q2_VDD (power), BT24 Q2_VDD (power), BT26 Q2_VDD (power), BT28 Q2_VDD (power), BT30 Q2_VDD (power), BT32 Q2_VDD (power), BT34 Q2_VDD (power), BV24 Q2_VDD (power), BV26 Q2_VDD (power), BV28 Q2_VDD (power), BV30 Q2_VDD (power), BV32 Q2_VDD (power), BV34 Q2_VDD (power), BY24 Q2_VDD (power), BY26 Q2_VDD (power), BY28 Q2_VDD (power), BY30 Q2_VDD (power), BY32 Q2_VDD (power), BY34 Q2_VDD (power), CB24 Q2_VDD (power), CB26 Q2_VDD (power), CB28 Q2_VDD (power), CB30 Q2_VDD (power), CB32 Q2_VDD (power), CB34 Q2_VDD (power), CD24 Q2_VDD (power), CD26 Q2_VDD (power), CD28 Q2_VDD (power), CD30 Q2_VDD (power), CD32 Q2_VDD (power), CD34 Q2_VDD (power), CF24 Q2_VDD (power), CF26 Q2_VDD (power), CF28 Q2_VDD (power), CF30 Q2_VDD (power), CF32 Q2_VDD (power), CF34 Q2_VDD (power)
part L pins: AY36 Q2_VDDV (power), BB36 Q2_VDDV (power), BD36 Q2_VDDV (power), BF36 Q2_VDDV (power), BH36 Q2_VDDV (power), BK36 Q2_VDDV (power), BM36 Q2_VDDV (power), BP36 Q2_VDDV (power), BT36 Q2_VDDV (power), BV36 Q2_VDDV (power), BY36 Q2_VDDV (power), CB36 Q2_VDDV (power), CD36 Q2_VDDV (power), CM24 Q2_VDDH (power), CM26 Q2_VDDH (power), CM28 Q2_VDDH (power), CM30 Q2_VDDH (power), CM32 Q2_VDDH (power), CM34 Q2_VDDH (power), CM36 Q2_VDDH (power), CM38 Q2_VDDH (power), CM40 Q2_VDDH (power), CM42 Q2_VDDH (power), CM44 Q2_VDDH (power)
part M pins: AB12 Q3_VDD (power), AB14 Q3_VDD (power), AB16 Q3_VDD (power), AB18 Q3_VDD (power), AB20 Q3_VDD (power), AB22 Q3_VDD (power), AD12 Q3_VDD (power), AD14 Q3_VDD (power), AD16 Q3_VDD (power), AD18 Q3_VDD (power), AD20 Q3_VDD (power), AD22 Q3_VDD (power), AF12 Q3_VDD (power), AF14 Q3_VDD (power), AF16 Q3_VDD (power), AF18 Q3_VDD (power), AF20 Q3_VDD (power), AF22 Q3_VDD (power), AH12 Q3_VDD (power), AH14 Q3_VDD (power), AH16 Q3_VDD (power), AH18 Q3_VDD (power), AH20 Q3_VDD (power), AH22 Q3_VDD (power), AK12 Q3_VDD (power), AK14 Q3_VDD (power), AK16 Q3_VDD (power), AK18 Q3_VDD (power), AK20 Q3_VDD (power), AK22 Q3_VDD (power), AM12 Q3_VDD (power), AM14 Q3_VDD (power), AM16 Q3_VDD (power), AM18 Q3_VDD (power), AM20 Q3_VDD (power), AM22 Q3_VDD (power), AP12 Q3_VDD (power), AP14 Q3_VDD (power), AP16 Q3_VDD (power), AP18 Q3_VDD (power), AP20 Q3_VDD (power), AP22 Q3_VDD (power), AT12 Q3_VDD (power), AT14 Q3_VDD (power), AT16 Q3_VDD (power), AT18 Q3_VDD (power), AT20 Q3_VDD (power), AT22 Q3_VDD (power), AV12 Q3_VDD (power), AV14 Q3_VDD (power), AV16 Q3_VDD (power), AV18 Q3_VDD (power), AV20 Q3_VDD (power), AV22 Q3_VDD (power), M12 Q3_VDD (power), M14 Q3_VDD (power), M16 Q3_VDD (power), M18 Q3_VDD (power), M20 Q3_VDD (power), M22 Q3_VDD (power), P12 Q3_VDD (power), P14 Q3_VDD (power), P16 Q3_VDD (power), P18 Q3_VDD (power), P20 Q3_VDD (power), P22 Q3_VDD (power), T12 Q3_VDD (power), T14 Q3_VDD (power), T16 Q3_VDD (power), T18 Q3_VDD (power), T20 Q3_VDD (power), T22 Q3_VDD (power), V12 Q3_VDD (power), V14 Q3_VDD (power), V16 Q3_VDD (power), V18 Q3_VDD (power), V20 Q3_VDD (power), V22 Q3_VDD (power), Y12 Q3_VDD (power), Y14 Q3_VDD (power), Y16 Q3_VDD (power), Y18 Q3_VDD (power), Y20 Q3_VDD (power), Y22 Q3_VDD (power)
part N pins: AB10 Q3_VDDV (power), AD10 Q3_VDDV (power), AF10 Q3_VDDV (power), AH10 Q3_VDDV (power), AK10 Q3_VDDV (power), AM10 Q3_VDDV (power), AP10 Q3_VDDV (power), AT10 Q3_VDDV (power), AV10 Q3_VDDV (power), F2 Q3_VDDH (power), F4 Q3_VDDH (power), F6 Q3_VDDH (power), F8 Q3_VDDH (power), F10 Q3_VDDH (power), F12 Q3_VDDH (power), F14 Q3_VDDH (power), F16 Q3_VDDH (power), F18 Q3_VDDH (power), F20 Q3_VDDH (power), F22 Q3_VDDH (power), P10 Q3_VDDV (power), T10 Q3_VDDV (power), V10 Q3_VDDV (power), Y10 Q3_VDDV (power)
part O pins: AY12 Q4_VDD (power), AY14 Q4_VDD (power), AY16 Q4_VDD (power), AY18 Q4_VDD (power), AY20 Q4_VDD (power), AY22 Q4_VDD (power), BB12 Q4_VDD (power), BB14 Q4_VDD (power), BB16 Q4_VDD (power), BB18 Q4_VDD (power), BB20 Q4_VDD (power), BB22 Q4_VDD (power), BD12 Q4_VDD (power), BD14 Q4_VDD (power), BD16 Q4_VDD (power), BD18 Q4_VDD (power), BD20 Q4_VDD (power), BD22 Q4_VDD (power), BF12 Q4_VDD (power), BF14 Q4_VDD (power), BF16 Q4_VDD (power), BF18 Q4_VDD (power), BF20 Q4_VDD (power), BF22 Q4_VDD (power), BH12 Q4_VDD (power), BH14 Q4_VDD (power), BH16 Q4_VDD (power), BH18 Q4_VDD (power), BH20 Q4_VDD (power), BH22 Q4_VDD (power), BK12 Q4_VDD (power), BK14 Q4_VDD (power), BK16 Q4_VDD (power), BK18 Q4_VDD (power), BK20 Q4_VDD (power), BK22 Q4_VDD (power), BM12 Q4_VDD (power), BM14 Q4_VDD (power), BM16 Q4_VDD (power), BM18 Q4_VDD (power), BM20 Q4_VDD (power), BM22 Q4_VDD (power), BP12 Q4_VDD (power), BP14 Q4_VDD (power), BP16 Q4_VDD (power), BP18 Q4_VDD (power), BP20 Q4_VDD (power), BP22 Q4_VDD (power), BT12 Q4_VDD (power), BT14 Q4_VDD (power), BT16 Q4_VDD (power), BT18 Q4_VDD (power), BT20 Q4_VDD (power), BT22 Q4_VDD (power), BV12 Q4_VDD (power), BV14 Q4_VDD (power), BV16 Q4_VDD (power), BV18 Q4_VDD (power), BV20 Q4_VDD (power), BV22 Q4_VDD (power), BY12 Q4_VDD (power), BY14 Q4_VDD (power), BY16 Q4_VDD (power), BY18 Q4_VDD (power), BY20 Q4_VDD (power), BY22 Q4_VDD (power), CB12 Q4_VDD (power), CB14 Q4_VDD (power), CB16 Q4_VDD (power), CB18 Q4_VDD (power), CB20 Q4_VDD (power), CB22 Q4_VDD (power), CD12 Q4_VDD (power), CD14 Q4_VDD (power), CD16 Q4_VDD (power), CD18 Q4_VDD (power), CD20 Q4_VDD (power), CD22 Q4_VDD (power), CF12 Q4_VDD (power), CF14 Q4_VDD (power), CF16 Q4_VDD (power), CF18 Q4_VDD (power), CF20 Q4_VDD (power), CF22 Q4_VDD (power)
part P pins: AY10 Q4_VDDV (power), BB10 Q4_VDDV (power), BD10 Q4_VDDV (power), BF10 Q4_VDDV (power), BH10 Q4_VDDV (power), BK10 Q4_VDDV (power), BM10 Q4_VDDV (power), BP10 Q4_VDDV (power), BT10 Q4_VDDV (power), BV10 Q4_VDDV (power), BY10 Q4_VDDV (power), CB10 Q4_VDDV (power), CD10 Q4_VDDV (power), CM2 Q4_VDDH (power), CM4 Q4_VDDH (power), CM6 Q4_VDDH (power), CM8 Q4_VDDH (power), CM10 Q4_VDDH (power), CM12 Q4_VDDH (power), CM14 Q4_VDDH (power), CM16 Q4_VDDH (power), CM18 Q4_VDDH (power), CM20 Q4_VDDH (power), CM22 Q4_VDDH (power)
part Q pins: A23 VSS (power), C1 VSS (power), C23 VSS (power), C45 VSS (power), D2 VSS (power), D44 VSS (power), E1 VSS (power), E3 VSS (power), E5 VSS (power), E7 VSS (power), E9 VSS (power), E11 VSS (power), E13 VSS (power), E15 VSS (power), E17 VSS (power), E19 VSS (power), E21 VSS (power), E23 VSS (power), E25 VSS (power), E27 VSS (power), E29 VSS (power), E31 VSS (power), E33 VSS (power), E35 VSS (power), E37 VSS (power), E39 VSS (power), E41 VSS (power), E43 VSS (power), E45 VSS (power), G1 VSS (power), G23 VSS (power), G45 VSS (power), H2 VSS (power), H44 VSS (power), J1 VSS (power), J23 VSS (power), J45 VSS (power), K2 VSS (power), K44 VSS (power), L1 VSS (power), L3 VSS (power), L5 VSS (power), L7 VSS (power), L9 VSS (power), L11 VSS (power), L13 VSS (power), L15 VSS (power), L17 VSS (power), L19 VSS (power), L21 VSS (power), L23 VSS (power), L25 VSS (power), L27 VSS (power), L29 VSS (power), L31 VSS (power), L33 VSS (power), L35 VSS (power), L37 VSS (power), L39 VSS (power), L41 VSS (power), L43 VSS (power), L45 VSS (power), M2 VSS (power), M4 VSS (power), M6 VSS (power), M8 VSS (power), M10 VSS (power), M36 VSS (power), M38 VSS (power), M40 VSS (power), M42 VSS (power), M44 VSS (power), N1 VSS (power), N3 VSS (power), N5 VSS (power), N7 VSS (power), N9 VSS (power), N11 VSS (power), N13 VSS (power), N15 VSS (power), N17 VSS (power), N19 VSS (power), N21 VSS (power), N23 VSS (power), N25 VSS (power), N27 VSS (power), N29 VSS (power), N31 VSS (power), N33 VSS (power), N35 VSS (power), N37 VSS (power), N39 VSS (power), N41 VSS (power), N43 VSS (power), N45 VSS (power), P2 VSS (power), P6 VSS (power), P8 VSS (power), P38 VSS (power), P40 VSS (power)
part R pins: AC3 VSS (power), AC7 VSS (power), AC9 VSS (power), AC11 VSS (power), AC13 VSS (power), AC15 VSS (power), AC17 VSS (power), AC19 VSS (power), AC21 VSS (power), AC23 VSS (power), AC25 VSS (power), AC27 VSS (power), AC29 VSS (power), AC31 VSS (power), AC33 VSS (power), AC35 VSS (power), AC37 VSS (power), AC39 VSS (power), AC43 VSS (power), AC45 VSS (power), AD4 VSS (power), AD6 VSS (power), AD40 VSS (power), AD42 VSS (power), AE3 VSS (power), AE5 VSS (power), AE9 VSS (power), AE11 VSS (power), AE13 VSS (power), AE15 VSS (power), AE17 VSS (power), AE19 VSS (power), AE21 VSS (power), AE23 VSS (power), AE25 VSS (power), AE27 VSS (power), AE29 VSS (power), AE31 VSS (power), AE33 VSS (power), AE35 VSS (power), AE37 VSS (power), AE41 VSS (power), AE43 VSS (power), AF2 VSS (power), AF6 VSS (power), AF8 VSS (power), AF38 VSS (power), AF40 VSS (power), AF44 VSS (power), AG1 VSS (power), AG3 VSS (power), AG7 VSS (power), AG9 VSS (power), AG11 VSS (power), AG13 VSS (power), AG15 VSS (power), AG17 VSS (power), AG19 VSS (power), AG21 VSS (power), AG23 VSS (power), AG25 VSS (power), AG27 VSS (power), AG29 VSS (power), AG31 VSS (power), AG33 VSS (power), AG35 VSS (power), AG37 VSS (power), AG39 VSS (power), AG43 VSS (power), AG45 VSS (power), AH4 VSS (power), AH6 VSS (power), AH40 VSS (power), AH42 VSS (power), AJ3 VSS (power), AJ5 VSS (power), AJ9 VSS (power), AJ11 VSS (power), AJ13 VSS (power), AJ15 VSS (power), AJ17 VSS (power), AJ19 VSS (power), AJ21 VSS (power), AJ23 VSS (power), AJ25 VSS (power), AJ27 VSS (power), AJ29 VSS (power), AJ31 VSS (power), AJ33 VSS (power), AJ35 VSS (power), AJ37 VSS (power), AJ41 VSS (power), AJ43 VSS (power), AK2 VSS (power), AK6 VSS (power), AK8 VSS (power), AK38 VSS (power), AK40 VSS (power), AK44 VSS (power), AL1 VSS (power)
part S pins: AL3 VSS (power), AL7 VSS (power), AL9 VSS (power), AL11 VSS (power), AL13 VSS (power), AL15 VSS (power), AL17 VSS (power), AL19 VSS (power), AL21 VSS (power), AL23 VSS (power), AL25 VSS (power), AL27 VSS (power), AL29 VSS (power), AL31 VSS (power), AL33 VSS (power), AL35 VSS (power), AL37 VSS (power), AL39 VSS (power), AL43 VSS (power), AL45 VSS (power), AM4 VSS (power), AM6 VSS (power), AM40 VSS (power), AM42 VSS (power), AN3 VSS (power), AN5 VSS (power), AN9 VSS (power), AN11 VSS (power), AN13 VSS (power), AN15 VSS (power), AN17 VSS (power), AN19 VSS (power), AN21 VSS (power), AN23 VSS (power), AN25 VSS (power), AN27 VSS (power), AN29 VSS (power), AN31 VSS (power), AN33 VSS (power), AN35 VSS (power), AN37 VSS (power), AN41 VSS (power), AN43 VSS (power), AP2 VSS (power), AP6 VSS (power), AP8 VSS (power), AP38 VSS (power), AP40 VSS (power), AP44 VSS (power), AR1 VSS (power), AR3 VSS (power), AR7 VSS (power), AR9 VSS (power), AR11 VSS (power), AR13 VSS (power), AR15 VSS (power), AR17 VSS (power), AR19 VSS (power), AR21 VSS (power), AR23 VSS (power), AR25 VSS (power), AR27 VSS (power), AR29 VSS (power), AR31 VSS (power), AR33 VSS (power), AR35 VSS (power), AR37 VSS (power), AR39 VSS (power), AR43 VSS (power), AR45 VSS (power), AT4 VSS (power), AT6 VSS (power), AT40 VSS (power), AT42 VSS (power), AU3 VSS (power), AU5 VSS (power), AU9 VSS (power), AU11 VSS (power), AU13 VSS (power), AU15 VSS (power), AU17 VSS (power), AU19 VSS (power), AU21 VSS (power), AU23 VSS (power), AU25 VSS (power), AU27 VSS (power), AU29 VSS (power), AU31 VSS (power), AU33 VSS (power), AU35 VSS (power), AU37 VSS (power), AU41 VSS (power), AU43 VSS (power), AV2 VSS (power), AV4 VSS (power), AV6 VSS (power), AV8 VSS (power), AV38 VSS (power), AV40 VSS (power), AV42 VSS (power)
part T pins: AV44 VSS (power), AW1 VSS (power), AW3 VSS (power), AW5 VSS (power), AW7 VSS (power), AW9 VSS (power), AW11 VSS (power), AW13 VSS (power), AW15 VSS (power), AW17 VSS (power), AW19 VSS (power), AW21 VSS (power), AW23 VSS (power), AW25 VSS (power), AW27 VSS (power), AW29 VSS (power), AW31 VSS (power), AW33 VSS (power), AW35 VSS (power), AW37 VSS (power), AW39 VSS (power), AW41 VSS (power), AW43 VSS (power), AW45 VSS (power), AY2 VSS (power), AY4 VSS (power), AY6 VSS (power), AY8 VSS (power), AY38 VSS (power), AY40 VSS (power), AY42 VSS (power), AY44 VSS (power), BA3 VSS (power), BA5 VSS (power), BA9 VSS (power), BA11 VSS (power), BA13 VSS (power), BA15 VSS (power), BA17 VSS (power), BA19 VSS (power), BA21 VSS (power), BA23 VSS (power), BA25 VSS (power), BA27 VSS (power), BA29 VSS (power), BA31 VSS (power), BA33 VSS (power), BA35 VSS (power), BA37 VSS (power), BA41 VSS (power), BA43 VSS (power), BB4 VSS (power), BB6 VSS (power), BB40 VSS (power), BB42 VSS (power), BC1 VSS (power), BC3 VSS (power), BC7 VSS (power), BC9 VSS (power), BC11 VSS (power), BC13 VSS (power), BC15 VSS (power), BC17 VSS (power), BC19 VSS (power), BC21 VSS (power), BC23 VSS (power), BC25 VSS (power), BC27 VSS (power), BC29 VSS (power), BC31 VSS (power), BC33 VSS (power), BC35 VSS (power), BC37 VSS (power), BC39 VSS (power), BC43 VSS (power), BC45 VSS (power), BD2 VSS (power), BD6 VSS (power), BD8 VSS (power), BD38 VSS (power), BD40 VSS (power), BD44 VSS (power), BE3 VSS (power), BE5 VSS (power), BE9 VSS (power), BE11 VSS (power), BE13 VSS (power), BE15 VSS (power), BE17 VSS (power), BE19 VSS (power), BE21 VSS (power), BE23 VSS (power), BE25 VSS (power), BE27 VSS (power), BE29 VSS (power), BE31 VSS (power), BE33 VSS (power), BE35 VSS (power), BE37 VSS (power), BE41 VSS (power)
part U pins: AA3 VSS (power), AA5 VSS (power), AA9 VSS (power), AA11 VSS (power), AA13 VSS (power), AA15 VSS (power), AA17 VSS (power), AA19 VSS (power), AA21 VSS (power), AA23 VSS (power), AA25 VSS (power), AA27 VSS (power), AA29 VSS (power), AA31 VSS (power), AA33 VSS (power), AA35 VSS (power), AA37 VSS (power), AA41 VSS (power), AA43 VSS (power), AB2 VSS (power), AB6 VSS (power), AB8 VSS (power), AB38 VSS (power), AB40 VSS (power), AB44 VSS (power), AC1 VSS (power), P44 VSS (power), R1 VSS (power), R3 VSS (power), R7 VSS (power), R9 VSS (power), R11 VSS (power), R13 VSS (power), R15 VSS (power), R17 VSS (power), R19 VSS (power), R21 VSS (power), R23 VSS (power), R25 VSS (power), R27 VSS (power), R29 VSS (power), R31 VSS (power), R33 VSS (power), R35 VSS (power), R37 VSS (power), R39 VSS (power), R43 VSS (power), R45 VSS (power), T4 VSS (power), T6 VSS (power), T40 VSS (power), T42 VSS (power), U3 VSS (power), U5 VSS (power), U9 VSS (power), U11 VSS (power), U13 VSS (power), U15 VSS (power), U17 VSS (power), U19 VSS (power), U21 VSS (power), U23 VSS (power), U25 VSS (power), U27 VSS (power), U29 VSS (power), U31 VSS (power), U33 VSS (power), U35 VSS (power), U37 VSS (power), U41 VSS (power), U43 VSS (power), V2 VSS (power), V6 VSS (power), V8 VSS (power), V38 VSS (power), V40 VSS (power), V44 VSS (power), W1 VSS (power), W3 VSS (power), W7 VSS (power), W9 VSS (power), W11 VSS (power), W13 VSS (power), W15 VSS (power), W17 VSS (power), W19 VSS (power), W21 VSS (power), W23 VSS (power), W25 VSS (power), W27 VSS (power), W29 VSS (power), W31 VSS (power), W33 VSS (power), W35 VSS (power), W37 VSS (power), W39 VSS (power), W43 VSS (power), W45 VSS (power), Y4 VSS (power), Y6 VSS (power), Y40 VSS (power), Y42 VSS (power)
part V pins: BE43 VSS (power), BF4 VSS (power), BF6 VSS (power), BF40 VSS (power), BF42 VSS (power), BG1 VSS (power), BG3 VSS (power), BG7 VSS (power), BG9 VSS (power), BG11 VSS (power), BG13 VSS (power), BG15 VSS (power), BG17 VSS (power), BG19 VSS (power), BG21 VSS (power), BG23 VSS (power), BG25 VSS (power), BG27 VSS (power), BG29 VSS (power), BG31 VSS (power), BG33 VSS (power), BG35 VSS (power), BG37 VSS (power), BG39 VSS (power), BG43 VSS (power), BG45 VSS (power), BH2 VSS (power), BH6 VSS (power), BH8 VSS (power), BH38 VSS (power), BH40 VSS (power), BH44 VSS (power), BJ3 VSS (power), BJ5 VSS (power), BJ9 VSS (power), BJ11 VSS (power), BJ13 VSS (power), BJ15 VSS (power), BJ17 VSS (power), BJ19 VSS (power), BJ21 VSS (power), BJ23 VSS (power), BJ25 VSS (power), BJ27 VSS (power), BJ29 VSS (power), BJ31 VSS (power), BJ33 VSS (power), BJ35 VSS (power), BJ37 VSS (power), BJ41 VSS (power), BJ43 VSS (power), BK4 VSS (power), BK6 VSS (power), BK40 VSS (power), BK42 VSS (power), BL1 VSS (power), BL3 VSS (power), BL7 VSS (power), BL9 VSS (power), BL11 VSS (power), BL13 VSS (power), BL15 VSS (power), BL17 VSS (power), BL19 VSS (power), BL21 VSS (power), BL23 VSS (power), BL25 VSS (power), BL27 VSS (power), BL29 VSS (power), BL31 VSS (power), BL33 VSS (power), BL35 VSS (power), BL37 VSS (power), BL39 VSS (power), BL43 VSS (power), BL45 VSS (power), BM2 VSS (power), BM6 VSS (power), BM8 VSS (power), BM38 VSS (power), BM40 VSS (power), BM44 VSS (power), BN3 VSS (power), BN5 VSS (power), BN9 VSS (power), BN11 VSS (power), BN13 VSS (power), BN15 VSS (power), BN17 VSS (power), BN19 VSS (power), BN21 VSS (power), BN23 VSS (power), BN25 VSS (power), BN27 VSS (power), BN29 VSS (power), BN31 VSS (power), BN33 VSS (power), BN35 VSS (power), BN37 VSS (power), BN41 VSS (power)
part W pins: BN43 VSS (power), BP4 VSS (power), BP6 VSS (power), BP40 VSS (power), BP42 VSS (power), BR1 VSS (power), BR3 VSS (power), BR7 VSS (power), BR9 VSS (power), BR11 VSS (power), BR13 VSS (power), BR15 VSS (power), BR17 VSS (power), BR19 VSS (power), BR21 VSS (power), BR23 VSS (power), BR25 VSS (power), BR27 VSS (power), BR29 VSS (power), BR31 VSS (power), BR33 VSS (power), BR35 VSS (power), BR37 VSS (power), BR39 VSS (power), BR43 VSS (power), BR45 VSS (power), BT2 VSS (power), BT6 VSS (power), BT8 VSS (power), BT38 VSS (power), BT40 VSS (power), BT44 VSS (power), BU3 VSS (power), BU5 VSS (power), BU9 VSS (power), BU11 VSS (power), BU13 VSS (power), BU15 VSS (power), BU17 VSS (power), BU19 VSS (power), BU21 VSS (power), BU23 VSS (power), BU25 VSS (power), BU27 VSS (power), BU29 VSS (power), BU31 VSS (power), BU33 VSS (power), BU35 VSS (power), BU37 VSS (power), BU41 VSS (power), BU43 VSS (power), BV4 VSS (power), BV6 VSS (power), BV40 VSS (power), BV42 VSS (power), BW1 VSS (power), BW3 VSS (power), BW7 VSS (power), BW9 VSS (power), BW11 VSS (power), BW13 VSS (power), BW15 VSS (power), BW17 VSS (power), BW19 VSS (power), BW21 VSS (power), BW23 VSS (power), BW25 VSS (power), BW27 VSS (power), BW29 VSS (power), BW31 VSS (power), BW33 VSS (power), BW35 VSS (power), BW37 VSS (power), BW39 VSS (power), BW43 VSS (power), BW45 VSS (power), BY2 VSS (power), BY6 VSS (power), BY8 VSS (power), BY38 VSS (power), BY40 VSS (power), BY44 VSS (power), CA3 VSS (power), CA5 VSS (power), CA9 VSS (power), CA11 VSS (power), CA13 VSS (power), CA15 VSS (power), CA17 VSS (power), CA19 VSS (power), CA21 VSS (power), CA23 VSS (power), CA25 VSS (power), CA27 VSS (power), CA29 VSS (power), CA31 VSS (power), CA33 VSS (power), CA35 VSS (power), CA37 VSS (power), CA41 VSS (power)
part X pins: CA43 VSS (power), CB4 VSS (power), CB6 VSS (power), CB40 VSS (power), CB42 VSS (power), CC1 VSS (power), CC3 VSS (power), CC7 VSS (power), CC9 VSS (power), CC11 VSS (power), CC13 VSS (power), CC15 VSS (power), CC17 VSS (power), CC19 VSS (power), CC21 VSS (power), CC23 VSS (power), CC25 VSS (power), CC27 VSS (power), CC29 VSS (power), CC31 VSS (power), CC33 VSS (power), CC35 VSS (power), CC37 VSS (power), CC39 VSS (power), CC43 VSS (power), CC45 VSS (power), CD2 VSS (power), CD6 VSS (power), CD8 VSS (power), CD38 VSS (power), CD40 VSS (power), CD44 VSS (power), CE1 VSS (power), CE3 VSS (power), CE5 VSS (power), CE7 VSS (power), CE9 VSS (power), CE11 VSS (power), CE13 VSS (power), CE15 VSS (power), CE17 VSS (power), CE19 VSS (power), CE21 VSS (power), CE23 VSS (power), CE25 VSS (power), CE27 VSS (power), CE29 VSS (power), CE31 VSS (power), CE33 VSS (power), CE35 VSS (power), CE37 VSS (power), CE39 VSS (power), CE41 VSS (power), CE43 VSS (power), CE45 VSS (power), CF2 VSS (power), CF4 VSS (power), CF6 VSS (power), CF8 VSS (power), CF10 VSS (power), CF36 VSS (power), CF38 VSS (power), CF40 VSS (power), CF42 VSS (power), CF44 VSS (power), CG1 VSS (power), CG3 VSS (power), CG5 VSS (power), CG7 VSS (power), CG9 VSS (power), CG11 VSS (power), CG13 VSS (power), CG15 VSS (power), CG17 VSS (power), CG19 VSS (power), CG21 VSS (power), CG23 VSS (power), CG25 VSS (power), CG27 VSS (power), CG29 VSS (power), CG31 VSS (power), CG33 VSS (power), CG35 VSS (power), CG37 VSS (power), CG39 VSS (power), CG41 VSS (power), CG43 VSS (power), CG45 VSS (power), CH2 VSS (power), CH44 VSS (power), CJ1 VSS (power), CJ23 VSS (power), CJ45 VSS (power), CK2 VSS (power), CK44 VSS (power), CL1 VSS (power), CL23 VSS (power), CL45 VSS (power), CN1 VSS (power), CN3 VSS (power)
part Y pins: CN5 VSS (power), CN7 VSS (power), CN9 VSS (power), CN11 VSS (power), CN13 VSS (power), CN15 VSS (power), CN17 VSS (power), CN19 VSS (power), CN21 VSS (power), CN23 VSS (power), CN25 VSS (power), CN27 VSS (power), CN29 VSS (power), CN31 VSS (power), CN33 VSS (power), CN35 VSS (power), CN37 VSS (power), CN39 VSS (power), CN41 VSS (power), CN43 VSS (power), CN45 VSS (power), CP2 VSS (power), CP44 VSS (power), CR1 VSS (power), CR23 VSS (power), CR45 VSS (power), CU23 VSS (power)

## yageo_50ohm
designator R?, comment 50ohm_HF
RES SMD 49.9 OHM 1% 1/32W 01005; Resistance: 113R; Max Power Dissipation: 30mW; Temperature Coefficient: 200ppm/°C; Length: 0.016inch; Resistor Type: Thick Film; Tolerance: 1%; Height: 0.006inch; RoHS Compliant: Yes; Case Code (Imperial): 1005; Width: 0.008inch; Packaging: Tape and Reel; Case Code (Metric): 0402; Min Operating Temperature: -55°C; Max Operating Temperature: 125°C; Features: Moisture Resistant; Number of Terminations: 2; Supplier 1: Digikey; Supplier Part Number 1: YAG6363CT-ND
footprint FP-RC0100-0_15-IPC_B
footprint FP-RC0100-0_15-IPC_A
footprint FP-RC0100-0_15-IPC_C
footprint FP-RC0100-0_15-MFG
pins: 1, 2

## yageo_100ohm
designator R1_?, comment RC0100FR-07100RL
RES SMD 100 OHM 1% 1/32W 01005; Resistance: 113R; Max Power Dissipation: 30mW; Temperature Coefficient: 200ppm/°C; Length: 0.016inch; Resistor Type: Thick Film; Tolerance: 1%; Height: 0.006inch; RoHS Compliant: Yes; Case Code (Imperial): 1005; Width: 0.008inch; Packaging: Tape and Reel; Case Code (Metric): 0402; Min Operating Temperature: -55°C; Max Operating Temperature: 125°C; Features: Moisture Resistant; Number of Terminations: 2; Supplier 1: Digikey; Supplier Part Number 1: 311-100DGCT-ND
footprint FP-RC0100-0_15-IPC_B
footprint FP-RC0100-0_15-IPC_A
footprint FP-RC0100-0_15-IPC_C
footprint FP-RC0100-0_15-MFG
pins: 1, 2